# Altium footprint library R.PcbLib: 23 footprints (part 2 of 2)
Each footprint in its own frame and in the unit in brackets; x right, y up, seen from the top. Pads: shape width x height; smd on the part's side, far side on the other; paste and mask are expansions set on the pad; w line width, h text height; cw(c..) or ccw(c..) is an arc to the next point about the centre after c.
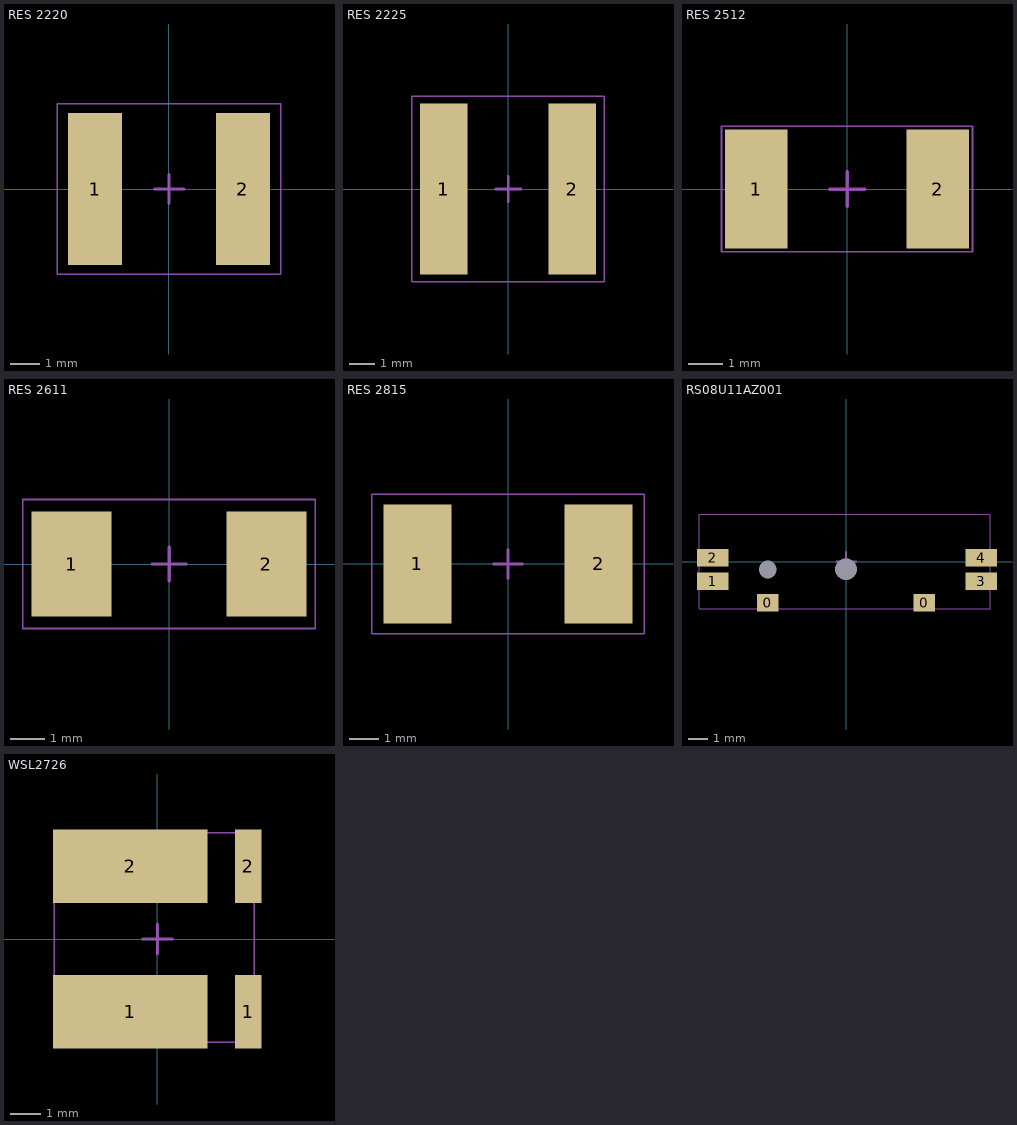
[diagram p1: the footprints below, top view; thin cyan lines are the x and y axes]

## RES 2220 [mm] "Body 5.7 x 5.0 mm (LxW typ)"
height 1.8
pads (2):
  rect 1.85x5.2 smd: 1(-2.525,0) 2(2.525,0)
Mechanical 3:
  text ".Designator" at -3.81,3.302 h0.5
Mechanical 15:
  lines w0.05: -3.81,-2.921 3.81,-2.921 3.81,2.921 -3.81,2.921 -3.81,-2.921
  lines w0.1: -0.495,0 0.505,0 ; 0.005,-0.5 0.005,0.5
3D body: height 1, standoff 0, extent 1.905,-2.413 3.175,2.413
3D body: height 1, standoff 0, extent -1.905,-2.413 1.905,2.413
3D body: height 1, standoff 0, extent -3.175,-2.413 -1.905,2.413

## RES 2225 [mm] "Body 5.6 x 6.4 mm (LxW typ)"
height 2
pads (2):
  rect 1.9x6.8 smd: 1(-2.55,0) 2(2.55,0)
Mechanical 3:
  text ".Designator" at -3.81,4.064 h0.5
Mechanical 15:
  lines w0.05: -3.81,-3.683 -3.81,3.683 3.81,3.683 3.81,-3.683 -3.81,-3.683
  lines w0.1: -0.495,0 0.505,0 ; 0.005,-0.5 0.005,0.5
3D body: height 1, standoff 0, extent -3.175,-3.048 -1.905,3.048
3D body: height 1, standoff 0, extent -1.905,-3.048 1.905,3.048
3D body: height 1, standoff 0, extent 1.905,-3.048 3.175,3.048

## RES 2512 [mm] "VISHAY SHUNT RESISTOR"
height 3.18
pads (2):
  rect 1.8x3.4 smd: 1(-2.6,0) 2(2.6,0)
Mechanical 3:
  text ".Designator" at -3.5,2 h0.5
Mechanical 15:
  lines w0.05: -3.6,-1.8 -3.6,1.8 3.6,1.8 3.6,-1.8 -3.6,-1.8
  lines w0.1: -0.495,0 0.505,0 ; 0.005,-0.5 0.005,0.5
3D body "WSLF2512 (0.0005 ohm).stp": height 1.22, standoff 0, extent -3.175,-1.575 3.175,1.6

## RES 2611 [mm] "Body 6.73 x 2.79 mm (LxW typ)"
height 3.18
pads (2):
  rect 2.35x3.1 smd: 1(-2.875,0) 2(2.875,0)
Mechanical 3:
  text ".Designator" at -4.318,2.286 h0.5
Mechanical 15:
  lines w0.05: -4.318,-1.905 -4.318,1.905 4.318,1.905 4.318,-1.905 -4.318,-1.905
  lines w0.1: -0.495,0 0.505,0 ; 0.005,-0.5 0.005,0.5
3D body: height 1, standoff 0, extent -3.556,-1.397 -1.905,1.397
3D body: height 1, standoff 0, extent -1.905,-1.397 1.905,1.397
3D body: height 1, standoff 0, extent 1.905,-1.397 3.556,1.397

## RES 2815 [mm] "Body 7.24 x 3.81 mm (LxW typ)"
height 3.18
pads (2):
  rect 2.35x4.1 smd: 1(-3.125,0) 2(3.125,0)
Mechanical 3:
  text ".Designator" at -4.572,2.794 h0.5
Mechanical 15:
  lines w0.05: -4.699,-2.413 -4.699,2.413 4.699,2.413 4.699,-2.413 -4.699,-2.413
  lines w0.1: -0.495,0 0.505,0 ; 0.005,-0.5 0.005,0.5
3D body: height 1, standoff 0, extent -4,-1.778 -2.286,1.778
3D body: height 1, standoff 0, extent -2.286,-1.778 2.286,1.778
3D body: height 1, standoff 0, extent 2.286,-1.778 3.951,1.778

## RS08U11AZ001 [mm] "Slide Potentiometers Vertical type, Travel 8mm, Lever length 1.3mm"
height 3.18
pads (8):
  rect 1.1x0.9 smd: 0(-4,-2.1) 0(4,-2.1)
  round 0 hole 0.9: 0(-4,-0.4)
  round 0 hole 1.1: 0(0,-0.381)
  rect 1.6x0.9 smd: 1(-6.8,-1) 2(-6.8,0.2) 3(6.9,-1) 4(6.9,0.2)
Mechanical 3:
  text ".Designator" at -4.572,2.794 h0.5
Mechanical 15:
  lines w0.05: -7.493,-2.413 7.366,-2.413 7.366,2.413 -7.493,2.413 -7.493,-2.413
  lines w0.1: -0.495,0 0.505,0 ; 0.005,-0.5 0.005,0.5
3D body "RS08U11AZ001.STEP": height 2.1, standoff -0.3, extent -7.4,-2.38 7.4,2.419

## WSL2726 [mm] "Body 7.24 x 3.81 mm (LxW typ)"
height 3.18
pads (4):
  rect 5.1x2.44 smd: 1(-0.9,-2.4) 2(-0.9,2.4)
  rect 0.89x2.44 smd: 1(3,-2.4) 2(3,2.4)
Mechanical 3:
  text ".Designator" at -3.3,4 h0.5
Mechanical 15:
  lines w0.05: -3.4,-3.4 3.2,-3.4 3.2,3.5 -3.4,3.5 -3.4,-3.4
  lines w0.1: -0.495,0 0.505,0 ; 0.005,-0.5 0.005,0.5
3D body "User Library-wsl2726.step": height 3.58, standoff 0, extent -3.3,-3.45 3.3,3.45